# EAGLE library part LIB1 (library audioic)
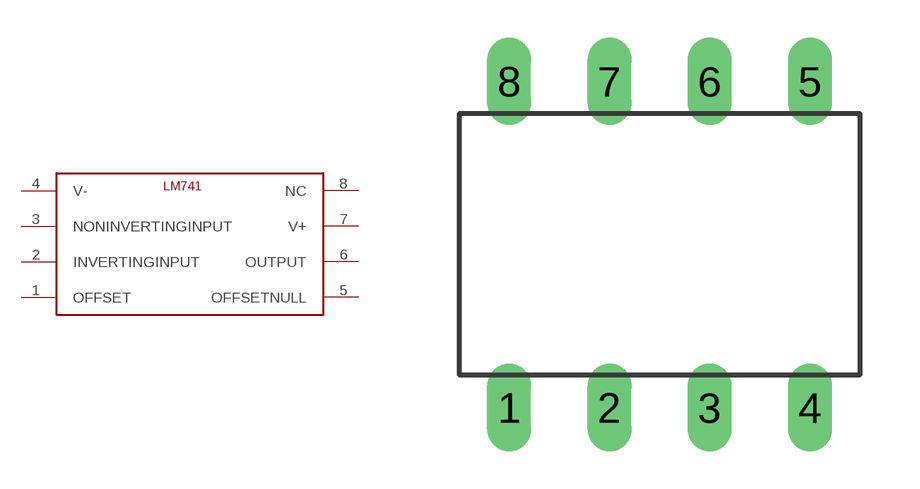
[diagram p0: symbol with the pads of LIB1; footprint LIB1]

Designator prefix -

## LIB1THROUGH_HOLE  [LIB1]
1  OFFSET
2  INVERTINGINPUT
3  NONINVERTINGINPUT
4  V-
5  OFFSETNULL
6  OUTPUT
7  V+
8  NC

## Footprint LIB1 (pad centres in mm)
drill 0.6 long: 1 1.27,-0.83; 2 3.81,-0.83; 3 6.35,-0.83; 4 8.89,-0.83; 5 8.89,7.43; 6 6.35,7.43; 7 3.81,7.43; 8 1.27,7.43